# EAGLE library part DIN5 (library audioint)
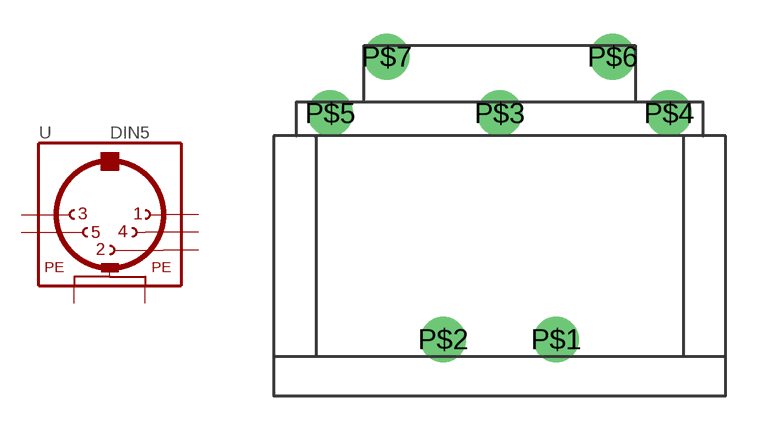
[diagram p24: symbol with the pads of DIN5; footprint DIN5]

Designator prefix -

## DIN5CUI/SDS-50J  [DIN5]
P$1  PE  pwr
P$2  PE  pwr
P$3  2  pas
P$4  1  pas
P$5  3  pas
P$6  4  pas
P$7  5  pas

## Footprint DIN5 (pad centres in mm)
drill 1.346 round: P$1 2.5,2.5; P$2 -2.5,2.5; P$3 0,12.5; P$4 7.5,12.5; P$5 -7.5,12.5; P$6 5,15; P$7 -5,15